# Altium integrated library USB-A1HSW6.IntLib: 1 symbol
Pins are listed as number, name and electrical type; pins without a type are passive.

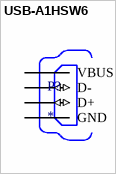
[diagram p0: symbol USB-A1HSW6]

## USB-A1HSW6
designator P?
USB - A Receptacle Connector 4 Position Through Hole, Right Angle; MP: USB-A1HSW6; Price: None; Package: None; Availability: Unavailable; Value: *
footprint OST_USB-A1HSW6
pins: 1 VBUS (power), 2 D- (io), 3 D+ (io), 4 GND (power)